# Altium footprint library D.PcbLib: 2 footprints
Each footprint in its own frame and in the unit in brackets; x right, y up, seen from the top. Pads: shape width x height; smd on the part's side, far side on the other; paste and mask are expansions set on the pad; w line width, h text height; cw(c..) or ccw(c..) is an arc to the next point about the centre after c.
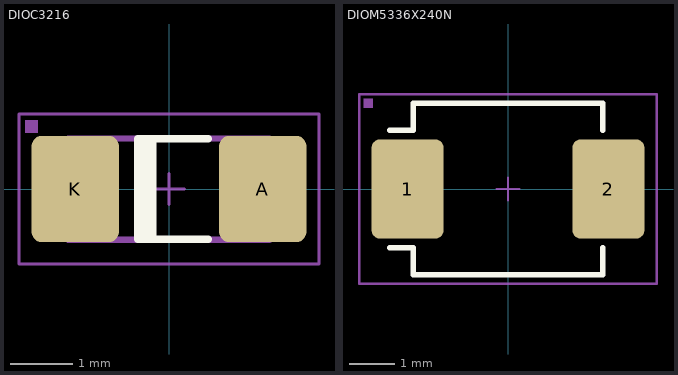
[diagram p0: the footprints below, top view; thin cyan lines are the x and y axes]

## DIOC3216 [mm] "Chip diode 3216 (1206)"
pads (2):
  rrect23% 1.4x1.7 smd: A(1.5,0) K(-1.5,0)
Top Overlay:
  rectangle: -0.5,-0.8 -0.2,0.8
  lines w0.12: 0.625,-0.8 -0.5,-0.8 -0.5,0.8 0.625,0.8
15. Courtyard TOP:
  lines w0.05: -0.25,0 0.25,0 ; 0,-0.25 0,0.25 ; -2.4,-1.2 2.4,-1.2 2.4,1.2 -2.4,1.2 -2.4,-1.2
17. Comp.body:
  lines w0.1: -1.61,0.81 1.61,0.81 1.61,-0.81 -1.61,-0.81 -1.61,0.8 -1.6,0.81
18. Assembly TOP:
  region: -2.3,1.1 -2.1,1.1 -2.1,0.9 -2.3,0.9
  lines w0.05: -2.4,-1.2 -2.4,1.2 2.4,1.2 2.4,-1.2 -2.4,-1.2
  text ".designator" at -2.2,-0.6 h1.2
3D body: height 0.61, standoff -0.01, extent -1.61,-0.81 1.61,0.81

## DIOM5336X240N [mm] "JEDEC DO-214AA, SMB"
height 2.44
pads (2):
  rrect23% 1.6x2.2 smd: 1(-2.225,0) 2(2.225,0)
Top Overlay:
  lines w0.12: -2.625,-1.3 -2.1,-1.3 -2.1,-1.9 2.1,-1.9 2.1,-1.3 ; -2.625,1.3 -2.1,1.3 -2.1,1.9 2.1,1.9 2.1,1.3
15. Courtyard TOP:
  lines w0.05: -0.25,0 0.25,0 ; 0,-0.25 0,0.25 ; -3.3,-2.1 -3.3,2.1 3.3,2.1 3.3,-2.1 -3.3,-2.1
18. Assembly TOP:
  region: -3.2,2 -3,2 -3,1.8 -3.2,1.8
  lines w0.05: -3.3,-2.1 -3.3,2.1 3.3,2.1 3.3,-2.1 -3.3,-2.1
  text ".designator" at -1.9,-0.5 h1
3D body: height 2.41, standoff 0.01, extent -2.65,-1.8 2.65,1.8